# EAGLE library part LMZ13608TZ/NOPB (library LMZ13608TZ)
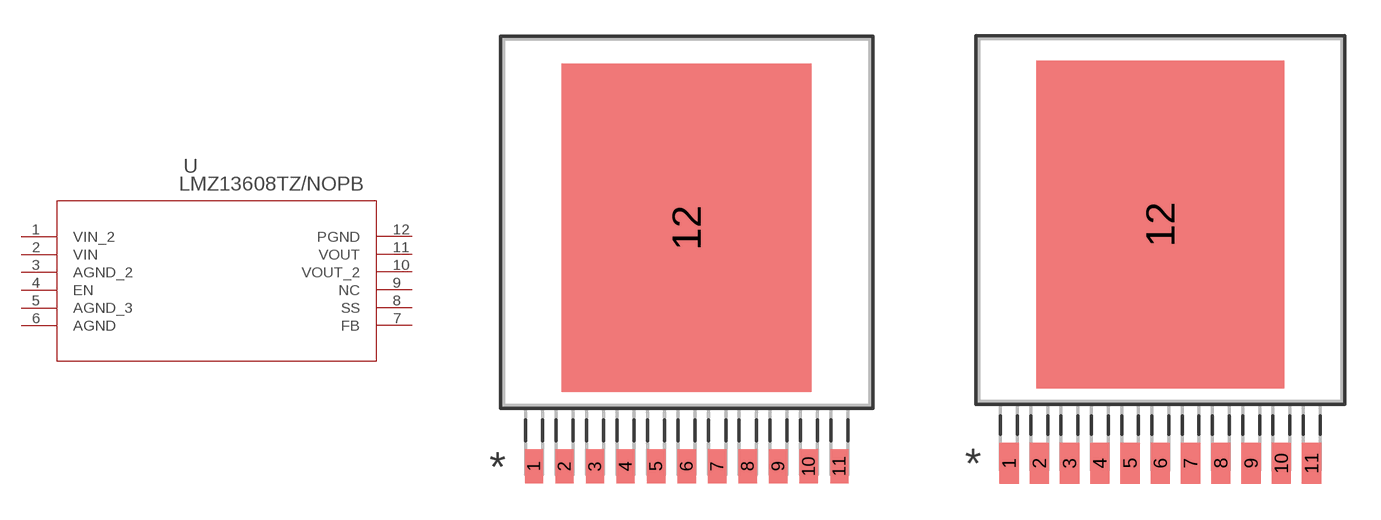
[diagram p0: symbol with the pads of TZA11A; footprints TZA11A, TZA11A-M]

Designator prefix U

## LMZ13608TZ/NOPB (MANUFACTURER_PART_NUMBER: LMZ13608TZNOPB; VENDOR: Texas Instruments)  [TZA11A]
1  VIN_2  in
2  VIN  in
3  AGND_2  pwr
4  EN  in
5  AGND_3  pwr
6  AGND  pwr
7  FB  out
8  SS  in
9  NC  nc
10  VOUT_2  out
11  VOUT  out
12  PGND  pas

## LMZ13608TZ/NOPBTZA11A-M (MANUFACTURER_PART_NUMBER: LMZ13608TZNOPB; VENDOR: Texas Instruments)  [TZA11A-M]
Pads as for TZA11A

## LMZ13608TZ/NOPBTZA11A-L (MANUFACTURER_PART_NUMBER: LMZ13608TZNOPB; VENDOR: Texas Instruments)  [TZA11A-L]
Pads as for TZA11A

## Footprint TZA11A (pad centres in mm)
smd 0.762 x 1.422: 1 -6.35,-10.16; 2 -5.08,-10.16; 3 -3.81,-10.16; 4 -2.54,-10.16; 5 -1.27,-10.16; 6 0,-10.16; 7 1.27,-10.16; 8 2.54,-10.16; 9 3.81,-10.16; 10 5.08,-10.16; 11 6.35,-10.16
smd 10.389 x 13.665: 12 0,-0.229

## Footprint TZA11A-M (pad centres in mm)
smd 0.813 x 1.727: 1 -6.35,-10.211; 2 -5.08,-10.211; 3 -3.81,-10.211; 4 -2.54,-10.211; 5 -1.27,-10.211; 6 0,-10.211; 7 1.27,-10.211; 8 2.54,-10.211; 9 3.81,-10.211; 10 5.08,-10.211; 11 6.35,-10.211
smd 10.389 x 13.767: 12 0,-0.178

## Footprint TZA11A-L (pad centres in mm)
smd 0.711 x 1.118: 1 -6.35,-10.109; 2 -5.08,-10.109; 3 -3.81,-10.109; 4 -2.54,-10.109; 5 -1.27,-10.109; 6 0,-10.109; 7 1.27,-10.109; 8 2.54,-10.109; 9 3.81,-10.109; 10 5.08,-10.109; 11 6.35,-10.109
smd 10.389 x 13.564: 12 0,-0.279